# Altium footprint library SIGMA_2D.PcbLib: 200 footprints (part 2 of 13)
Each footprint in its own frame and in the unit in brackets; x right, y up, seen from the top. Pads: shape width x height; smd on the part's side, far side on the other; paste and mask are expansions set on the pad; w line width, h text height; cw(c..) or ccw(c..) is an arc to the next point about the centre after c.
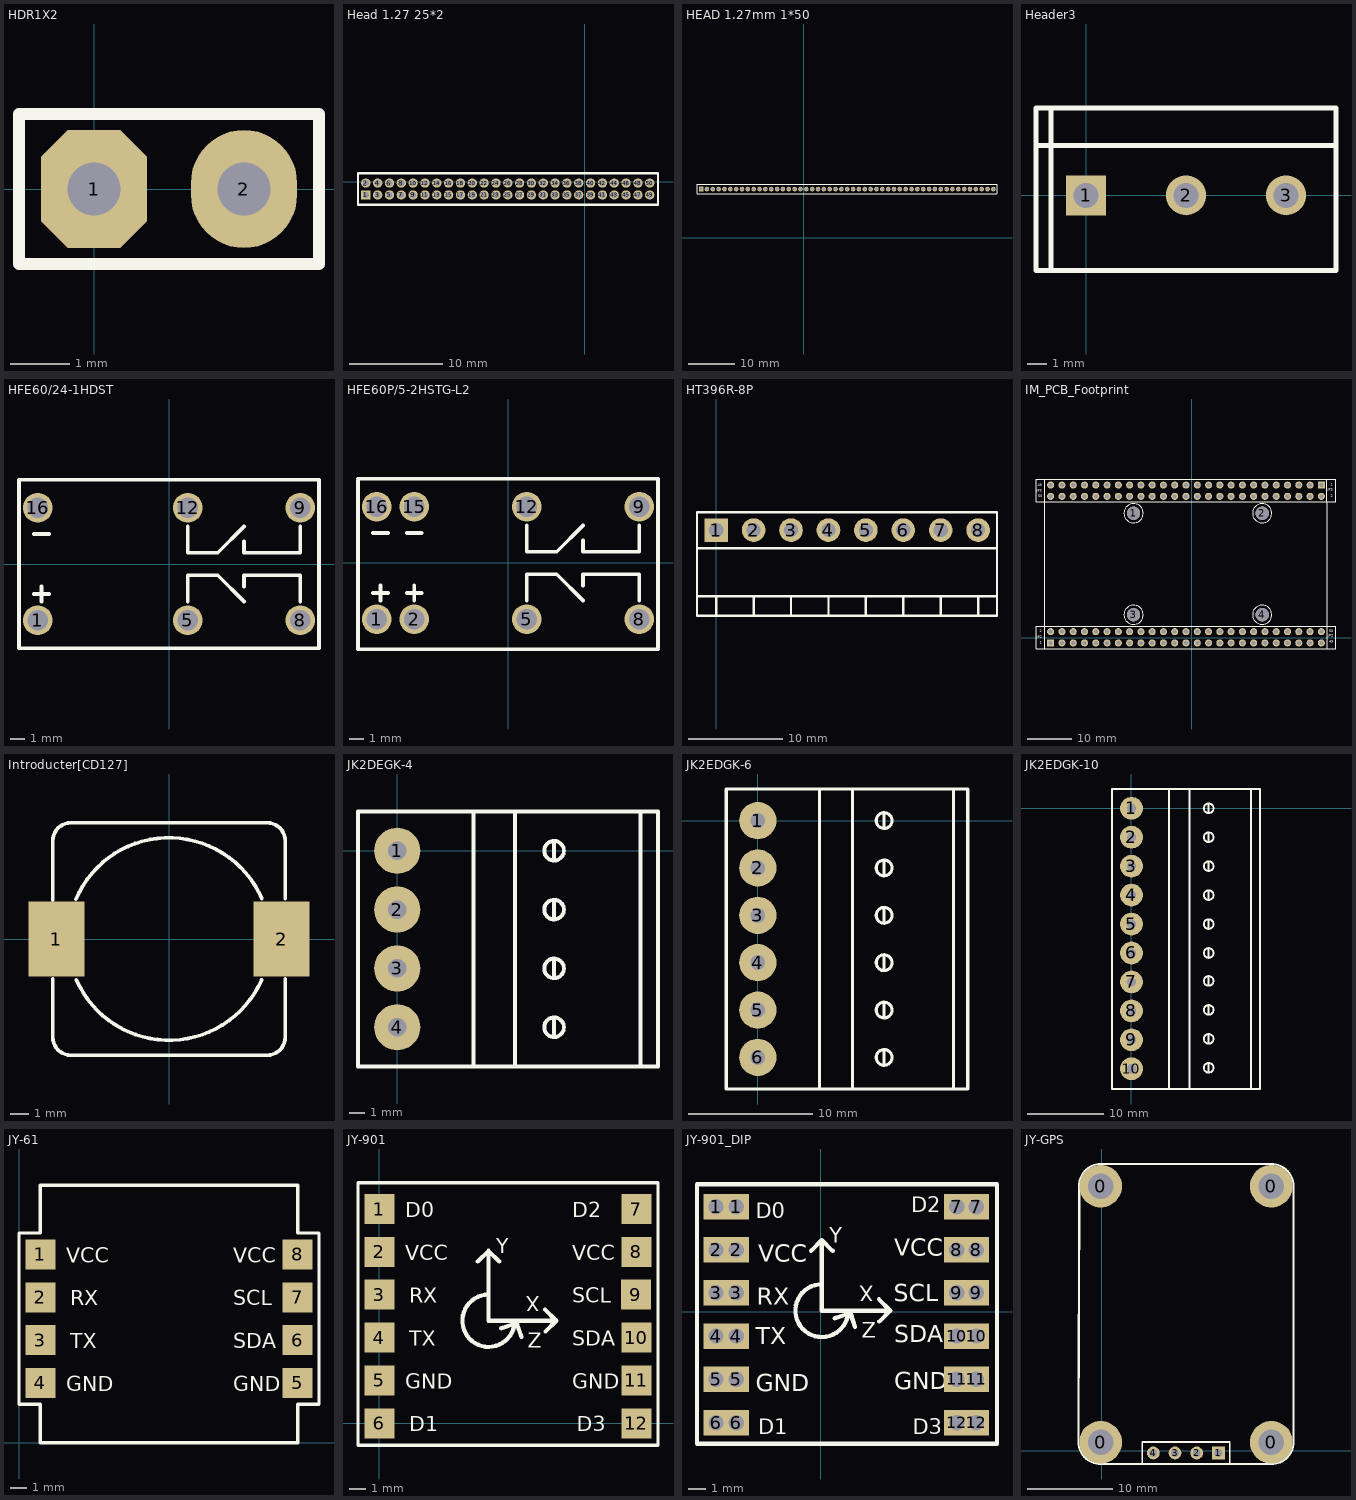
[diagram p1: the footprints below, top view; thin cyan lines are the x and y axes]

## HDR1X2 [mm] "Connector; Header; 2 Position"
pads (2):
  oct 1.8x2 hole 0.9: 1(0,0)
  oval 1.8x2 hole 0.9: 2(2.54,0)
Top Overlay:
  lines w0.2: -1.27,-1.27 3.81,-1.27 3.81,1.27 -1.27,1.27 -1.27,-1.27

## Head 1.27 25*2 [mm]
pads (50):
  rect 1x1 hole 0.65: 1(-23.52,-1.424)
  round 1 hole 0.65: 2(-23.52,-0.154) 3(-22.25,-1.424) 4(-22.25,-0.154) 5(-20.98,-1.424) 6(-20.98,-0.154) 7(-19.71,-1.424) 8(-19.71,-0.154) 9(-18.44,-1.424) 10(-18.44,-0.154) 11(-17.17,-1.424) 12(-17.17,-0.154) 13(-15.9,-1.424) 14(-15.9,-0.154) 15(-14.63,-1.424) 16(-14.63,-0.154) 17(-13.36,-1.424) 18(-13.36,-0.154) 19(-12.09,-1.424) 20(-12.09,-0.154) 21(-10.82,-1.424) 22(-10.82,-0.154) 23(-9.55,-1.424) 24(-9.55,-0.154) 25(-8.28,-1.424) 26(-8.28,-0.154) 27(-7.01,-1.424) 28(-7.01,-0.154) 29(-5.74,-1.424) 30(-5.74,-0.154) 31(-4.47,-1.424) 32(-4.47,-0.154) 33(-3.2,-1.424) 34(-3.2,-0.154) 35(-1.93,-1.424) 36(-1.93,-0.154) 37(-0.66,-1.424) 38(-0.66,-0.154) 39(0.61,-1.424) 40(0.61,-0.154) 41(1.88,-1.424) 42(1.88,-0.154) 43(3.15,-1.424) 44(3.15,-0.154) 45(4.42,-1.424) 46(4.42,-0.154) 47(5.69,-1.424) 48(5.69,-0.154) 49(6.96,-1.424) 50(6.96,-0.154)
Top Overlay:
  lines w0.254: -24.359,-2.489 -24.359,0.911 7.849,0.911 7.849,-2.489 -24.359,-2.489
Mechanical 15:
  lines w0.003: 1.244,-0.338 1.245,-0.337

## HEAD 1.27mm 1*50 [mm]
pads (51):
  rect 1x1 hole 0.65: 1(-22.327,10.59)
  round 1 hole 0.65: 2(-21.057,10.59) 3(-19.787,10.59) 4(-18.517,10.59) 5(-17.247,10.59) 6(-15.977,10.59) 7(-14.707,10.59) 8(-13.437,10.59) 9(-12.167,10.59) 10(-10.897,10.59) 11(-9.627,10.59) 12(-8.357,10.59) 13(-7.087,10.59) 14(-5.817,10.59) 15(-4.547,10.59) 16(-3.277,10.59) 17(-2.007,10.59) 18(-0.737,10.59) 19(0.533,10.59) 20(1.803,10.59) 21(3.073,10.59) 22(4.343,10.59) 23(5.613,10.59) 24(6.883,10.59) 25(8.153,10.59) 26(9.423,10.59) 27(10.693,10.59) 28(11.963,10.59) 29(13.233,10.59) 30(14.503,10.59) 31(15.773,10.59) 32(17.043,10.59) 33(18.313,10.59) 34(19.583,10.59) 35(20.853,10.59) 36(22.123,10.59) 37(23.393,10.59) 38(24.663,10.59) 39(25.933,10.59) 40(27.203,10.59) 41(28.473,10.59) 42(29.743,10.59) 43(31.013,10.59) 44(32.283,10.59) 45(33.553,10.59) 46(34.823,10.59) 47(36.093,10.59) 48(37.363,10.59) 49(38.633,10.59) 50(39.903,10.59) 80(41.173,10.59)
Top Overlay:
  lines w0.254: 41.885,9.525 -23.216,9.525 -23.216,11.659 41.961,11.659 41.961,9.601
Mechanical 15:
  lines w0.003: 2.438,11.677 2.439,11.677

## Header3 [mil]
height 78.74
pads (3):
  rect 80x80 hole 50: 1(0,0)
  round 80 hole 50: 2(200,0) 3(400,0)
Top Overlay:
  lines w10: -100,100 500,100 ; -70,-150 -70,175 ; -100,-150 500,-150 500,175 -100,175 -100,-150

## HFE60/24-1HDST [mm] "磁保继电器，断电后也能保持状态"
height 10.5
pads (6):
  round 2 hole 1.4: 1(-8.89,-3.81) 5(1.27,-3.81) 8(8.89,-3.81) 9(8.89,3.81) 12(1.27,3.81) 16(-8.89,3.81)
Top Overlay:
  lines w0.254: -9.144,-2.032 -8.128,-2.032 ; -9.144,2.032 -8.128,2.032 ; -8.636,-2.54 -8.636,-1.524 ; 1.27,-2.54 1.27,-0.762 3.302,-0.762 5.08,-2.54 ; 1.27,2.54 1.27,0.762 3.302,0.762 5.08,2.54 ; 5.08,-1.524 5.08,-0.762 8.89,-0.762 8.89,-1.016 8.89,-2.54 ; 5.08,1.524 5.08,0.762 8.89,0.762 8.89,1.016 8.89,2.54 ; -10.16,-5.7 -10.16,5.7 10.16,5.7 10.16,-5.7 -10.16,-5.7

## HFE60P/5-2HSTG-L2 [mm] "双线圈(5V)两组常开(5A250V)磁保持继电器 双稳态"
height 10.5
pads (8):
  round 2 hole 1.4: 1(-8.89,-3.81) 2(-6.35,-3.81) 5(1.27,-3.81) 8(8.89,-3.81) 9(8.89,3.81) 12(1.27,3.81) 15(-6.35,3.81) 16(-8.89,3.81)
Top Overlay:
  lines w0.254: -10.16,5.558 -10.16,-5.842 10.16,-5.842 ; -10.16,5.7 10.16,5.7 10.16,-5.7 ; -9.144,-2.032 -8.128,-2.032 ; -9.144,2.032 -8.128,2.032 ; -8.636,-2.54 -8.636,-1.524 ; -6.858,-2.032 -5.842,-2.032 ; -6.858,2.032 -5.842,2.032 ; -6.35,-2.54 -6.35,-1.524 ; 1.27,-2.54 1.27,-0.762 3.302,-0.762 5.08,-2.54 ; 1.27,2.54 1.27,0.762 3.302,0.762 5.08,2.54 ; 5.08,-1.524 5.08,-0.762 8.89,-0.762 8.89,-1.016 8.89,-2.54 ; 5.08,1.524 5.08,0.762 8.89,0.762 8.89,1.016 8.89,2.54

## HT396R-8P [mm] "HT396R-8P 弯针"
height 7.4
pads (8):
  rect 2.5x2.5 hole 1.5: 1(0,-15.84)
  round 2.5 hole 1.5: 2(3.96,-15.84) 3(7.92,-15.84) 4(11.88,-15.84) 5(15.84,-15.84) 6(19.8,-15.84) 7(23.76,-15.84) 8(27.72,-15.84)
Top Overlay:
  lines w0.254: -2.032,-22.86 29.718,-22.86 ; -2.032,-17.78 29.718,-17.78 ; 0,-24.892 0,-22.86 ; 3.96,-24.892 3.96,-22.86 ; 7.92,-24.892 7.92,-22.86 ; 11.88,-24.892 11.88,-22.86 ; 15.84,-24.892 15.84,-22.86 ; 19.8,-24.892 19.8,-22.86 ; 23.76,-24.892 23.76,-22.86 ; 27.72,-24.892 27.72,-22.86 ; -2.032,-24.892 -2.032,-13.97 29.718,-13.97 29.718,-24.892 -2.032,-24.892

## IM_PCB_Footprint [mm] "IM核心板封装"
pads (104):
  round 3 hole 3: 1(-13.106,27.991) 2(15.85,27.991) 3(-13.106,5.131) 4(15.85,5.131)
  rect 1.6x1.6 hole 0.9: JP2-1(-31.775,-1.219) JP3-1(29.185,34.341)
  round 1.6 hole 0.9: JP2-2(-31.775,1.321) JP2-3(-29.235,-1.219) JP2-4(-29.235,1.321) JP2-5(-26.695,-1.219) JP2-6(-26.695,1.321) JP2-7(-24.155,-1.219) JP2-8(-24.155,1.321) JP2-9(-21.615,-1.219) JP2-10(-21.615,1.321) JP2-11(-19.075,-1.219) JP2-12(-19.075,1.321) JP2-13(-16.535,-1.219) JP2-14(-16.535,1.321) JP2-15(-13.995,-1.219) JP2-16(-13.995,1.321) JP2-17(-11.455,-1.219) JP2-18(-11.455,1.321) JP2-19(-8.915,-1.219) JP2-20(-8.915,1.321) JP2-21(-6.375,-1.219) JP2-22(-6.375,1.321) JP2-23(-3.835,-1.219) JP2-24(-3.835,1.321) JP2-25(-1.295,-1.219) JP2-26(-1.295,1.321) JP2-27(1.245,-1.219) JP2-28(1.245,1.321) JP2-29(3.785,-1.219) JP2-30(3.785,1.321) JP2-31(6.325,-1.219) JP2-32(6.325,1.321) JP2-33(8.865,-1.219) JP2-34(8.865,1.321) JP2-35(11.405,-1.219) JP2-36(11.405,1.321) JP2-37(13.945,-1.219) JP2-38(13.945,1.321) JP2-39(16.485,-1.219) JP2-40(16.485,1.321) JP2-41(19.025,-1.219) JP2-42(19.025,1.321) JP2-43(21.565,-1.219) JP2-44(21.565,1.321) JP2-45(24.105,-1.219) JP2-46(24.105,1.321) JP2-47(26.645,-1.219) JP2-48(26.645,1.321) JP2-49(29.185,-1.219) JP2-50(29.185,1.321) JP3-2(29.185,31.801) JP3-3(26.645,34.341) JP3-4(26.645,31.801) JP3-5(24.105,34.341) JP3-6(24.105,31.801) JP3-7(21.565,34.341) JP3-8(21.565,31.801) JP3-9(19.025,34.341) JP3-10(19.025,31.801) JP3-11(16.485,34.341) JP3-12(16.485,31.801) JP3-13(13.945,34.341) JP3-14(13.945,31.801) JP3-15(11.405,34.341) JP3-16(11.405,31.801) JP3-17(8.865,34.341) JP3-18(8.865,31.801) JP3-19(6.325,34.341) JP3-20(6.325,31.801) JP3-21(3.785,34.341) JP3-22(3.785,31.801) JP3-23(1.245,34.341) JP3-24(1.245,31.801) JP3-25(-1.295,34.341) JP3-26(-1.295,31.801) JP3-27(-3.835,34.341) JP3-28(-3.835,31.801) JP3-29(-6.375,34.341) JP3-30(-6.375,31.801) JP3-31(-8.915,34.341) JP3-32(-8.915,31.801) JP3-33(-11.455,34.341) JP3-34(-11.455,31.801) JP3-35(-13.995,34.341) JP3-36(-13.995,31.801) JP3-37(-16.535,34.341) JP3-38(-16.535,31.801) JP3-39(-19.075,34.341) JP3-40(-19.075,31.801) JP3-41(-21.615,34.341) JP3-42(-21.615,31.801) JP3-43(-24.155,34.341) JP3-44(-24.155,31.801) JP3-45(-26.695,34.341) JP3-46(-26.695,31.801) JP3-47(-29.235,34.341) JP3-48(-29.235,31.801) JP3-49(-31.775,34.341) JP3-50(-31.775,31.801)
Top Overlay:
  circle w0.254: c-13.106,27.991 r2.159
  circle w0.254: c15.85,27.991 r2.159
  circle w0.254: c-13.106,5.131 r2.159
  circle w0.254: c15.85,5.131 r2.159
  lines w0.254: 30.48,2.616 30.48,30.531 ; 30.556,-2.489 -33.147,-2.489 ; 30.556,2.591 -33.147,2.591 ; -33.147,-2.489 -33.147,2.591 ; -33.147,-2.489 -35.077,-2.489 -35.077,2.591 -33.147,2.591 ; -33.147,2.591 -33.147,30.531 ; -33.147,30.531 -35.027,30.531 -35.052,30.556 -35.052,35.611 -33.147,35.611 ; -33.147,30.531 30.455,30.531 ; -33.147,30.531 -33.147,35.611 ; -33.147,35.611 30.455,35.611 ; 30.455,30.531 32.487,30.531 32.487,35.611 30.455,35.611 ; 30.455,30.531 30.455,35.611 ; 30.505,-2.489 30.505,2.591 32.487,2.591 32.487,-2.489 30.505,-2.489
  text "1" at -34.239,-1.676 h1.02
  text "2" at -34.239,0.914 h1.02
  text "50" at 30.937,0.965 h1.02
  text "49" at 30.937,-1.346 h1.02
  text "1" at 31.267,34.011 h1.02
  text "2" at 31.318,31.42 h1.02
  text "50" at -34.62,31.42 h1.02
  text "49" at -34.646,33.884 h1.02
  text "JP3" at -34.874,32.614 h1.02
  text "JP2" at -34.874,-0.356 h1.02
  text "JP3" at 30.683,32.842 h1.02
  text "JP2" at 30.759,-0.102 h1.02
3D body "HDR2.54-1x2P.STEP": height 8.5, standoff -3, extent 25.375,30.531 27.915,35.611
3D body "HDR2.54-1x2P.STEP": height 8.5, standoff -3, extent 10.135,-2.489 12.675,2.591
3D body "HDR2.54-1x2P.STEP": height 8.5, standoff -3, extent 12.675,-2.489 15.215,2.591
3D body "HDR2.54-1x2P.STEP": height 8.5, standoff -3, extent 5.055,-2.489 7.595,2.591
3D body "HDR2.54-1x2P.STEP": height 8.5, standoff -3, extent 7.595,-2.489 10.135,2.591
3D body "HDR2.54-1x2P.STEP": height 8.5, standoff -3, extent 15.215,-2.489 17.755,2.591
3D body "HDR2.54-1x2P.STEP": height 8.5, standoff -3, extent -2.565,-2.489 -0.025,2.591
3D body "HDR2.54-1x2P.STEP": height 8.5, standoff -3, extent -0.025,-2.489 2.515,2.591
3D body "HDR2.54-1x2P.STEP": height 8.5, standoff -3, extent -7.645,-2.489 -5.105,2.591
3D body "HDR2.54-1x2P.STEP": height 8.5, standoff -3, extent -5.105,-2.489 -2.565,2.591
3D body "HDR2.54-1x2P.STEP": height 8.5, standoff -3, extent 2.515,-2.489 5.055,2.591
3D body "HDR2.54-1x2P.STEP": height 8.5, standoff -3, extent -15.265,-2.489 -12.725,2.591
3D body "HDR2.54-1x2P.STEP": height 8.5, standoff -3, extent -12.725,-2.489 -10.185,2.591
3D body "HDR2.54-1x2P.STEP": height 8.5, standoff -3, extent -20.345,-2.489 -17.805,2.591
3D body "HDR2.54-1x2P.STEP": height 8.5, standoff -3, extent -17.805,-2.489 -15.265,2.591
3D body "HDR2.54-1x2P.STEP": height 8.5, standoff -3, extent -10.185,-2.489 -7.645,2.591
3D body "HDR2.54-1x2P.STEP": height 8.5, standoff -3, extent -27.965,-2.489 -25.425,2.591
3D body "HDR2.54-1x2P.STEP": height 8.5, standoff -3, extent -25.425,-2.489 -22.885,2.591
3D body "HDR2.54-1x2P.STEP": height 8.5, standoff -3, extent -33.045,-2.489 -30.505,2.591
3D body "HDR2.54-1x2P.STEP": height 8.5, standoff -3, extent -30.505,-2.489 -27.965,2.591
3D body "HDR2.54-1x2P.STEP": height 8.5, standoff -3, extent -22.885,-2.489 -20.345,2.591
3D body "HDR2.54-1x2P.STEP": height 8.5, standoff -3, extent 27.915,-2.489 30.455,2.591
3D body "HDR2.54-1x2P.STEP": height 8.5, standoff -3, extent 20.295,-2.489 22.835,2.591
3D body "HDR2.54-1x2P.STEP": height 8.5, standoff -3, extent 25.375,-2.489 27.915,2.591
3D body "HDR2.54-1x2P.STEP": height 8.5, standoff -3, extent 22.835,-2.489 25.375,2.591
3D body "HDR2.54-1x2P.STEP": height 8.5, standoff -3, extent 17.755,-2.489 20.295,2.591
3D body "HDR2.54-1x2P.STEP": height 8.5, standoff -3, extent -15.265,30.531 -12.725,35.611
3D body "HDR2.54-1x2P.STEP": height 8.5, standoff -3, extent -17.805,30.531 -15.265,35.611
3D body "HDR2.54-1x2P.STEP": height 8.5, standoff -3, extent -10.185,30.531 -7.645,35.611
3D body "HDR2.54-1x2P.STEP": height 8.5, standoff -3, extent -12.725,30.531 -10.185,35.611
3D body "HDR2.54-1x2P.STEP": height 8.5, standoff -3, extent -20.345,30.531 -17.805,35.611
3D body "HDR2.54-1x2P.STEP": height 8.5, standoff -3, extent -2.565,30.531 -0.025,35.611
3D body "HDR2.54-1x2P.STEP": height 8.5, standoff -3, extent -5.105,30.531 -2.565,35.611
3D body "HDR2.54-1x2P.STEP": height 8.5, standoff -3, extent 2.515,30.531 5.055,35.611
3D body "HDR2.54-1x2P.STEP": height 8.5, standoff -3, extent -0.025,30.531 2.515,35.611
3D body "HDR2.54-1x2P.STEP": height 8.5, standoff -3, extent -7.645,30.531 -5.105,35.611
3D body "HDR2.54-1x2P.STEP": height 8.5, standoff -3, extent 10.135,30.531 12.675,35.611
3D body "HDR2.54-1x2P.STEP": height 8.5, standoff -3, extent 7.595,30.531 10.135,35.611
3D body "HDR2.54-1x2P.STEP": height 8.5, standoff -3, extent 15.215,30.531 17.755,35.611
3D body "HDR2.54-1x2P.STEP": height 8.5, standoff -3, extent 12.675,30.531 15.215,35.611
3D body "HDR2.54-1x2P.STEP": height 8.5, standoff -3, extent 5.055,30.531 7.595,35.611
3D body "HDR2.54-1x2P.STEP": height 8.5, standoff -3, extent 22.835,30.531 25.375,35.611
3D body "HDR2.54-1x2P.STEP": height 8.5, standoff -3, extent 20.295,30.531 22.835,35.611
3D body "HDR2.54-1x2P.STEP": height 8.5, standoff -3, extent 27.915,30.531 30.455,35.611
3D body "HDR2.54-1x2P.STEP": height 8.5, standoff -3, extent 17.755,30.531 20.295,35.611
3D body "HDR2.54-1x2P.STEP": height 8.5, standoff -3, extent -33.045,30.531 -30.505,35.611
3D body "HDR2.54-1x2P.STEP": height 8.5, standoff -3, extent -25.425,30.531 -22.885,35.611
3D body "HDR2.54-1x2P.STEP": height 8.5, standoff -3, extent -30.505,30.531 -27.965,35.611
3D body "HDR2.54-1x2P.STEP": height 8.5, standoff -3, extent -27.965,30.531 -25.425,35.611
3D body "HDR2.54-1x2P.STEP": height 8.5, standoff -3, extent -22.885,30.531 -20.345,35.611

## Introducter[CD127] [mm]
pads (2):
  rect 3x4 smd: 1(-6,0) 2(6,0)
Top Overlay:
  lines w0.2: -6.198,-2.134 -6.2,-2.136 -6.2,-3.475 -6.2,-5.23 ccw(c-5.23,-5.23) -5.23,-6.2 5.23,-6.2 ccw(c5.23,-5.23) 6.2,-5.23 6.2,-3.475 6.2,-2.136 6.198,-2.134 6.2,-2.131 ; -6.198,2.083 -6.2,2.085 -6.2,3.475 -6.2,5.23 cw(c-5.23,5.23) -5.23,6.2 5.23,6.2 cw(c5.23,5.23) 6.2,5.23 6.2,3.475 6.2,2.161 ; -4.967,2.118 cw(c0,0) 4.951,2.156 ; -4.942,-2.176 ccw(c0,0) 4.939,-2.183

## JK2DEGK-4 [mm]
pads (4):
  round 3 hole 1.2: 1(0,0) 2(0,-3.81) 3(0,-7.62) 4(0,-11.43)
Top Overlay:
  circle w0.254: c10.16,0 r0.635
  circle w0.254: c10.16,-7.62 r0.635
  circle w0.254: c10.16,-11.43 r0.635
  circle w0.254: c10.16,-3.81 r0.635
  lines w0.254: 4.953,-13.97 4.953,2.54 ; 7.62,-13.843 7.62,2.54 ; 10.16,-12.065 10.16,-10.795 ; 10.16,-8.255 10.16,-6.985 ; 10.16,-4.445 10.16,-3.175 ; 10.16,-0.635 10.16,0.635 ; 10.16,2.54 0,2.54 ; 15.748,-13.97 15.748,2.54 ; 0,2.54 -2.54,2.54 -2.54,-13.97 16.891,-13.97 16.891,2.54 0,2.54

## JK2EDGK-6 [mm]
pads (6):
  round 3 hole 1.2: 1(0,0) 2(0,-3.81) 3(0,-7.62) 4(0,-11.43) 5(0,-15.24) 6(0,-19.05)
Top Overlay:
  circle w0.254: c10.16,0 r0.635
  circle w0.254: c10.16,-7.62 r0.635
  circle w0.254: c10.16,-15.24 r0.635
  circle w0.254: c10.16,-19.05 r0.635
  circle w0.254: c10.16,-11.43 r0.635
  circle w0.254: c10.16,-3.81 r0.635
  lines w0.254: 4.953,-21.463 4.953,2.54 ; 7.62,-21.59 7.62,2.54 ; 10.16,-19.685 10.16,-18.415 ; 10.16,-15.875 10.16,-14.605 ; 10.16,-12.065 10.16,-10.795 ; 10.16,-8.255 10.16,-6.985 ; 10.16,-4.445 10.16,-3.175 ; 10.16,-0.635 10.16,0.635 ; 10.16,2.54 0,2.54 ; 15.748,-21.59 15.748,2.54 ; 0,2.54 -2.54,2.54 -2.54,-21.59 16.891,-21.59 16.891,2.54 0,2.54

## JK2EDGK-10 [mm]
pads (10):
  round 3 hole 1.2: 1(0,0) 2(0,-3.81) 3(0,-7.62) 4(0,-11.43) 5(0,-15.24) 6(0,-19.05) 7(0,-22.86) 8(0,-26.67) 9(0,-30.48) 10(0,-34.29)
Top Overlay:
  circle w0.254: c10.16,-3.81 r0.635
  circle w0.254: c10.16,-11.43 r0.635
  circle w0.254: c10.16,-19.05 r0.635
  circle w0.254: c10.16,-15.24 r0.635
  circle w0.254: c10.16,-7.62 r0.635
  circle w0.254: c10.16,0 r0.635
  circle w0.254: c10.16,-22.733 r0.635
  circle w0.254: c10.16,-30.353 r0.635
  circle w0.254: c10.16,-34.163 r0.635
  circle w0.254: c10.16,-26.543 r0.635
  lines w0.254: 4.953,-36.83 4.953,2.54 ; 7.62,-36.957 7.62,2.54 ; 10.16,-34.798 10.16,-33.528 ; 10.16,-30.988 10.16,-29.718 ; 10.16,-27.178 10.16,-25.908 ; 10.16,-23.368 10.16,-22.098 ; 10.16,-19.685 10.16,-18.415 ; 10.16,-15.875 10.16,-14.605 ; 10.16,-12.065 10.16,-10.795 ; 10.16,-8.255 10.16,-6.985 ; 10.16,-4.445 10.16,-3.175 ; 10.16,-0.635 10.16,0.635 ; 10.16,2.54 0,2.54 ; 15.748,-36.83 15.748,2.54 ; 0,2.54 16.891,2.54 16.891,-36.957 -2.54,-36.957 -2.54,2.54 0,2.54

## JY-61 [mil]
pads (8):
  rect 70x70 smd: 1(50,439) 2(50,339) 3(50,239) 4(50,139) 5(650,139) 6(650,239) 7(650,339) 8(650,439)
Top Overlay:
  lines w7.87: 50,89 0,89 0,489 50,489 ; 650,89 700,89 700,489 650,489
  lines w8: 50,90 50,0 650,0 650,90 ; 50,490 50,600 650,600 650,490
  text "SCL" at 500,320 h35
  text "SDA" at 500,220 h35
  text "TX" at 120,220 h35
  text "RX" at 120,320 h35
  text "GND" at 500,120 h35
  text "GND" at 110,120 h35
  text "VCC" at 500,420 h35
  text "VCC" at 110,420 h35

## JY-901 [mil]
pads (12):
  rect 70x70 smd: 1(0.63,499.63) 2(0.63,399.63) 3(0.63,299.63) 4(0.63,199.63) 5(0.63,99.63) 6(0.63,-0.37) 7(600,499.63) 8(600,399.63) 9(599,299.63) 10(600,199.63) 11(600,99.63) 12(600,-0.37)
Top Overlay:
  lines w7.87: -49.37,49.63 -49.37,449.63 ; 650.63,49.63 650.63,449.63
  lines w8: -49.37,49.63 -49.37,-51.37 650.63,-51.37 650.63,-25.12 650.63,25.38 650.63,49.63 ; -49.37,449.63 -49.37,560.63 650.63,560.63 650.63,449.63
  lines w10: 230.2,376.9 255.2,401.9 ; 255.2,299.93 ccw(c255.2,238.9) 316.17,236.04 ; 280.2,376.9 255.2,401.9 ; 284.95,221.43 314.95,231.43 ; 322,231 332,201 ; 387.2,264.9 412.2,239.9 ; 388.2,213.9 413.2,238.9 255.2,238.9 255.2,401.9
  text "D3" at 460.63,-19.37 h35
  text "D2" at 450.63,480.63 h35
  text "D1" at 70.63,-19.37 h35
  text "D0" at 60.63,480.63 h35
  text "SCL" at 450.63,280.63 h35
  text "SDA" at 450.63,180.63 h35
  text "TX" at 70.63,180.63 h35
  text "RX" at 70.63,280.63 h35
  text "GND" at 450.63,80.63 h35
  text "GND" at 60.63,80.63 h35
  text "VCC" at 450.63,380.63 h35
  text "VCC" at 60.63,380.63 h35
  text "Z" at 347,176 h35
  text "X" at 342,296 h35
  text "Y" at 302,396 h35

## JY-901_DIP [mm] "也适用于JY61P"
pads (24):
  rect 1.5x1.5 hole 0.9: 1(-6.149,6.177) 1(-4.956,6.177) 2(-6.149,3.637) 2(-4.956,3.637) 3(-6.149,1.123) 3(-4.956,1.123) 4(-6.149,-1.417) 4(-4.956,-1.417) 5(-6.149,-3.957) 5(-4.956,-3.957) 6(-6.149,-6.497) 6(-4.956,-6.497) 7(7.973,6.177) 7(9.116,6.177) 8(7.973,3.637) 8(9.116,3.637) 9(7.976,1.123) 9(9.119,1.123) 10(7.973,-1.417) 10(9.116,-1.417) 11(7.973,-3.957) 11(9.116,-3.957) 12(7.973,-6.497) 12(9.116,-6.497)
Top Overlay:
  lines w0.254: -0.579,3.581 0.056,4.216 ; 0.056,1.626 ccw(c0.056,0.076) 1.604,0.004 ; 0.691,3.581 0.056,4.216 ; 0.811,-0.368 1.573,-0.114 ; 1.753,-0.124 2.007,-0.886 ; 3.409,0.737 4.044,0.102 ; 3.434,-0.559 4.069,0.076 0.056,0.076 0.056,4.216 ; -7.267,-7.742 10.335,-7.742 10.335,7.498 -7.267,7.498 -7.267,-7.742
  text "Z" at 2.388,-1.521 h0.89
  text "X" at 2.261,1.527 h0.89
  text "Y" at 1.245,4.067 h0.89
  text "D2" at 5.309,5.845 h0.89
  text "VCC" at 4.293,3.305 h1.02
  text "SCL" at 4.267,0.635 h1.02
  text "SDA" at 4.293,-1.775 h1.02
  text "GND" at 4.293,-4.527 h1.02
  text "D3" at 5.385,-7.171 h0.89
  text "D1" at -3.683,-7.171 h0.89
  text "GND" at -3.81,-4.657 h1.02
  text "TX" at -3.81,-1.905 h1.02
  text "RX" at -3.759,0.423 h1.02
  text "VCC" at -3.683,2.938 h1.02
  text "D0" at -3.81,5.503 h0.89

## JY-GPS [mm]
pads (8):
  round 5 hole 3: 0(-0.127,0.991) 0(-0.127,30.988) 0(19.863,0.991) 0(19.863,30.988)
  rect 1.5x1.5 hole 0.9: 1(13.665,-0.254)
  round 1.5 hole 0.9: 2(11.125,-0.254) 3(8.585,-0.254) 4(6.045,-0.254)
Top Overlay:
  lines w0.2: 14.935,1.016 4.75,1.016 4.75,-1.524 14.986,-1.524 14.986,1.016
  lines w0.254: -2.718,1.016 ccw(c-0.14,1.029) -0.127,-1.549 19.863,-1.549 ccw(c19.888,1.016) 22.454,0.991 22.454,30.988 ccw(c19.85,30.975) 19.837,33.579 -0.127,33.579 ccw(c-0.102,31.039) -2.642,31.013 -2.718,1.016